# EAGLE library part LTC4412 (library personal)
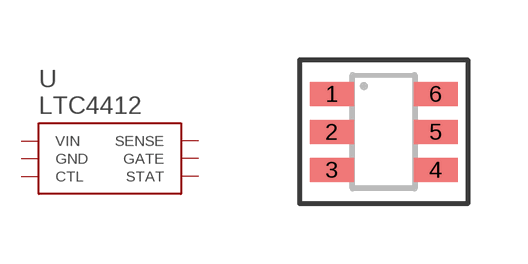
[diagram p9: symbol with the pads of TSOT23-6; footprint TSOT23-6]

Designator prefix U

## LTC4412  [TSOT23-6]
1  VIN
2  GND
3  CTL
4  STAT
5  GATE
6  SENSE

## Footprint TSOT23-6 (pad centres in mm)
S6 Package 6-Lead Plastic TSOT-23 Source: http://cds.linear.com/docs/Datasheet/623012fb.pdf
smd 1.1 x 0.6: 1 -1.3,0.95; 2 -1.3,0; 3 -1.3,-0.95; 4 1.3,-0.95; 5 1.3,0; 6 1.3,0.95